# Altium footprint library LT3790.PcbLib: 10 footprints
Each footprint in its own frame and in the unit in brackets; x right, y up, seen from the top. Pads: shape width x height; smd on the part's side, far side on the other; paste and mask are expansions set on the pad; w line width, h text height; cw(c..) or ccw(c..) is an arc to the next point about the centre after c.
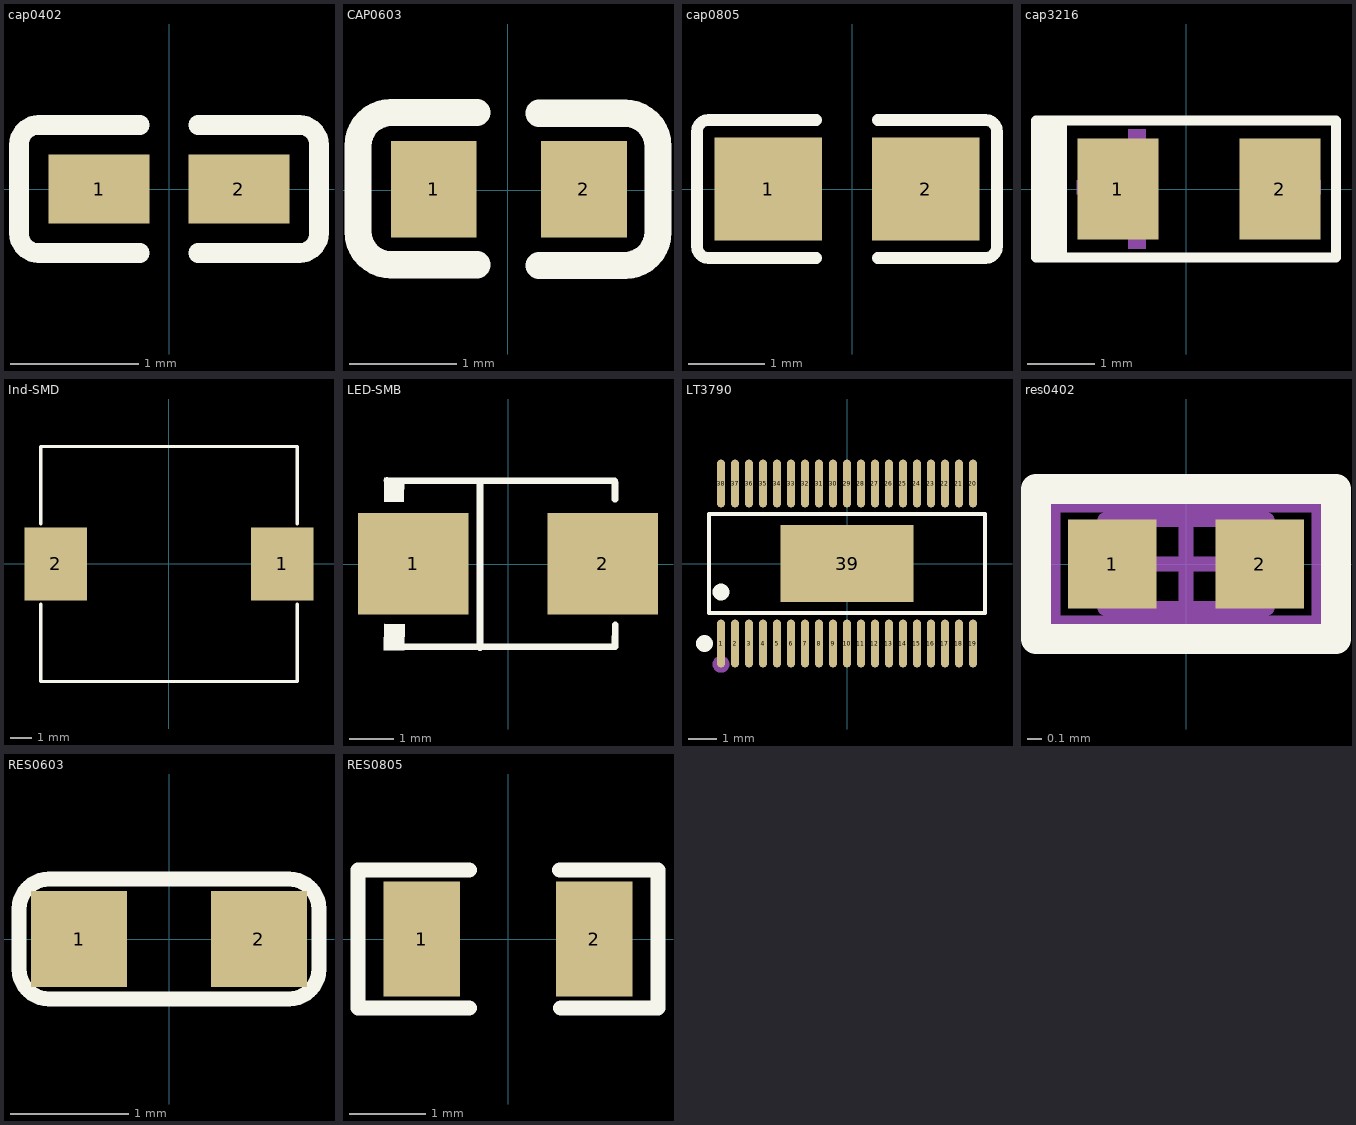
[diagram p0: the footprints below, top view; thin cyan lines are the x and y axes]

## cap0402 [mm]
pads (2):
  rect 0.79x0.54 smd: 1(-0.545,0) 2(0.545,0)
Top Overlay:
  lines w0.152: -0.226,-0.499 -1.016,-0.499 cw(c-1.016,-0.346) -1.169,-0.346 -1.169,0.346 cw(c-1.016,0.346) -1.016,0.499 -0.226,0.499 ; 0.226,-0.499 1.016,-0.499 ccw(c1.016,-0.346) 1.169,-0.346 1.169,0.346 ccw(c1.016,0.346) 1.016,0.499 0.226,0.499
Top Paste:
  region: 0.78,0.225 0.78,-0.225 0.73,-0.275 0.25,-0.275 0.18,-0.225 0.18,0.225 0.25,0.275 0.73,0.275
  region: -0.18,0.225 -0.18,-0.225 -0.25,-0.275 -0.73,-0.275 -0.78,-0.225 -0.78,0.225 -0.73,0.275 -0.25,0.275

## CAP0603 [mm]
pads (2):
  rect 0.8x0.9 smd: 1(-0.691,0.007) 2(0.708,0.007)
Top Overlay:
  lines w0.254: -0.287,-0.697 -1.087,-0.697 cw(c-1.087,-0.387) -1.397,-0.387 -1.397,0.413 cw(c-1.087,0.413) -1.087,0.723 -0.287,0.723 ; 0.289,-0.703 1.089,-0.703 ccw(c1.089,-0.393) 1.399,-0.393 1.399,0.407 ccw(c1.089,0.407) 1.089,0.717 0.289,0.717

## cap0805 [mm]
pads (2):
  rect 1.41x1.35 smd: 1(-1.097,0) 2(0.963,0)
Top Overlay:
  lines w0.152: -0.469,-0.904 -1.879,-0.904 cw(c-1.879,-0.751) -2.031,-0.751 -2.031,0.751 cw(c-1.879,0.751) -1.879,0.904 -0.469,0.904 ; 0.334,-0.904 1.744,-0.904 ccw(c1.744,-0.751) 1.896,-0.751 1.896,0.751 ccw(c1.744,0.751) 1.744,0.904 0.334,0.904
Top Paste:
  region: -1.742,-0.62 -1.742,0.66 -1.692,0.71 -0.542,0.71 -0.492,0.66 -0.487,0.25 -0.937,0.25 -0.937,-0.2 -0.497,-0.2 -0.492,-0.62 -0.542,-0.67 -1.692,-0.67
  region: 0.408,-0.62 0.408,-0.2 0.853,-0.2 0.853,0.25 0.413,0.25 0.408,0.66 0.458,0.71 1.608,0.71 1.658,0.66 1.658,-0.62 1.608,-0.67 0.458,-0.67

## cap3216 [mm]
pads (2):
  rect 1.2x1.5 smd: 1(-1.009,0) 2(1.39,0)
Top Overlay:
  region: -1.841,1.016 -1.841,-1.016 -2.222,-1.016 -2.222,1.016
  lines w0.152: -1.841,-1.016 -2.222,-1.016 -2.222,1.016 -1.841,1.016 ; -1.841,-1.016 -1.841,1.016 ; -1.841,-1.016 2.222,-1.016 2.222,1.016 -1.841,1.016
Mechanical 15:
  region: -0.599,0.381 -0.599,0.889 -0.853,0.889 -0.853,0.381
  region: -0.599,-0.889 -0.599,-0.381 -0.853,-0.381 -0.853,-0.889
  region: -1.615,0.127 -0.828,0.127 -0.828,-0.076 -1.615,-0.076
  region: -1.333,-0.381 -1.333,0.406 -1.13,0.406 -1.13,-0.381
  region: 1.206,0.127 1.994,0.127 1.994,-0.076 1.206,-0.076

## Ind-SMD [mm]
pads (2):
  rect 2.924x3.42 smd: 1(5.278,0) 2(-5.278,0)
Top Overlay:
  lines w0.152: -5.976,-1.862 -5.976,-5.476 5.976,-5.476 5.976,-1.862 ; -5.976,1.862 -5.976,5.476 5.976,5.476 5.976,1.862

## LED-SMB [mm]
pads (2):
  rect 2.5x2.3 smd: 1(-2.15,0.009) 2(2.15,0.009)
Top Overlay:
  region: -2.353,1.958 -2.365,1.409 -2.81,1.414 -2.81,1.958
  region: -2.357,-1.953 -2.344,-1.361 -2.804,-1.354 -2.814,-1.953
  lines w0.152: -2.744,-1.877 2.433,-1.87 ; -2.744,1.896 2.413,1.889 ; -0.635,-1.896 -0.635,1.871 ; 2.424,-1.867 2.431,-1.372 ; 2.424,1.848 2.427,1.472
Mechanical 15:
  region: -2.801,-0.117 -2.801,0.154 -1.715,0.154 -1.715,-0.117
  region: 2.895,-0.098 2.895,0.173 1.809,0.173 1.809,-0.098
  region: 2.487,-0.971 2.487,0.839 2.216,0.839 2.216,-0.971

## LT3790 [mm]
pads (39):
  oval 0.28x1.715 smd: 1(-4.5,-2.857) 2(-4,-2.857) 3(-3.5,-2.857) 4(-3,-2.857) 5(-2.5,-2.857) 6(-2,-2.857) 7(-1.5,-2.857) 8(-1,-2.857) 9(-0.5,-2.857) 10(0,-2.857) 11(0.5,-2.857) 12(1,-2.857) 13(1.5,-2.857) 14(2,-2.857) 15(2.5,-2.857) 16(3,-2.857) 17(3.5,-2.857) 18(4,-2.857) 19(4.5,-2.857) 20(4.5,2.857) 21(4,2.857) 22(3.5,2.857) 23(3,2.857) 24(2.5,2.857) 25(2,2.857) 26(1.5,2.857) 27(1,2.857) 28(0.5,2.857) 29(0,2.857) 30(-0.5,2.857) 31(-1,2.857) 32(-1.5,2.857) 33(-2,2.857) 34(-2.5,2.857) 35(-3,2.857) 36(-3.5,2.857) 37(-4,2.857) 38(-4.5,2.857)
  rect 4.75x2.74 smd: 39(0,0)
Top Overlay:
  circle w0.3: c-5.093,-2.858 r0.15
  circle w0.3: c-4.5,-1.019 r0.15
  lines w0.152: -4.926,-1.771 -4.926,1.771 4.926,1.771 4.926,-1.771 -4.926,-1.771
Mechanical 15:
  circle w0.3: c-4.5,-3.6 r0.15

## res0402 [mm]
pads (2):
  rect 0.6x0.6 smd: 1(-0.5,0) 2(0.5,0)
Top Overlay:
  lines w0.2: -1.016,-0.508 -1.016,0.508 1.016,0.508 1.016,-0.508 -1.016,-0.508
Mechanical 1:
  lines w0.1: -0.3,0 0.3,0 ; 0,-0.3 0,0.3 ; -0.9,-0.4 -0.9,0.4 0.9,0.4 0.9,-0.4 -0.9,-0.4 ; -0.55,-0.3 -0.55,0.3 0.55,0.3 0.55,-0.3 -0.55,-0.3

## RES0603 [mil]
pads (2):
  rect 32x32 smd: 1(-30,0) 2(30,0)
Top Overlay:
  lines w5: -50,-10 ccw(c-40,-10) -40,-20 40,-20 ccw(c40,-10) 50,-10 50,10 ccw(c40,10) 40,20 -40,20 ccw(c-40,10) -50,10 -50,-10

## RES0805 [mm]
pads (2):
  rect 1x1.5 smd: 1(-1.124,0) 2(1.124,0)
Top Overlay:
  lines w0.2: -0.507,-0.9 -1.956,-0.9 -1.956,0.9 -0.507,0.9 ; 0.675,0.9 1.956,0.9 1.956,-0.9 0.686,-0.9